# Altium schematic symbol library Electromechanical.SchLib: 4 symbols
Pins are listed as number, name and electrical type; pins without a type are passive.

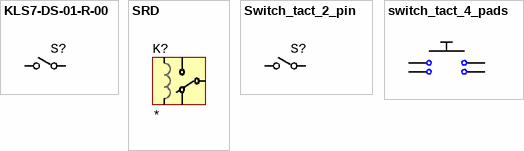
[diagram p0: symbols KLS7-DS-01-R-00 to switch_tact_4_pads]

## KLS7-DS-01-R-00
designator S?  (value not drawn)
Mechanical DIP switch / KLS7-DS-Side Type Dip Switch Series: / Mechanical life: 2000 operations per switch / Operation Force : ≤9.8N max. / Stroke:2.0mm. / Operation Temp:-20ºC~+70ºC / Electrical life 2000 operations per switch-24 VDC 25mA / Contact Resistance: 50m max. at initial / Non-Switching Rating: 100mA, 50VDC / Switching Rating: 25mA, 24VDC / Circuit: Single pole single throw / Soldering and Cleaning Processes / Keep all switch contacts in their “OFF” position for all operations
footprint DIP-1-1 (Used for the / KLS7-DS-01-R-00)
pins: 1, 2

## SRD
designator K?
SRD relay coil (3,5,6,12,24,48V)  220V; Coil Voltage: *
footprint SRD-XXVDC-SL-C (SRD-XXVDC-SL-C relay where / XX - coil voltage)
pins: 1 Coil_1, 2 OUT, 3 Coil_2, 4 NC, 5 NO

## Switch_tact_2_pin
designator S?  (value not drawn)
footprint DIP-1-1 (Used for the / KLS7-DS-01-R-00)
footprint SW_TS09-63-25-WT-160-SMT-TR
pins: 1, 2

## switch_tact_4_pads
designator SB?  (value not drawn)
footprint switch_tact_6x6
footprint switch_tact_6x6_smd
pins: 1, 2, 3, 4